# Altium integrated library 67-23SDRSUGSUBC_TR8.IntLib: 1 symbol
Pins are listed as number, name and electrical type; pins without a type are passive.

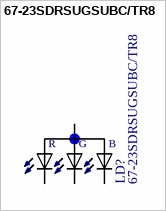
[diagram p0: symbol 67-23SDRSUGSUBC/TR8]

## 67-23SDRSUGSUBC/TR8
designator LD?
SMD-LED RGB 112/216/57mcd PLCC; MF: Everlight; Availability: Warning; Price: None; MP: 67-23SDRSUGSUBC/TR8; Package: None; Value: *
footprint PLCC4
pins: 1 RC, 2 CA, 3 BC, 4 GC
text: R; G; B